# Altium schematic symbol library 74hc165.SchLib: 1 symbol
Pins are listed as number, name and electrical type; pins without a type are passive.

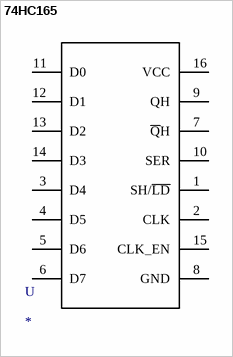
[diagram p0: symbol 74HC165]

## 74HC165
designator U
Shift Shift Register 1 Element 8 Bit 16-SO; MF: Nexperia USA; MP: 74HC165; SnapEDA_Link: https://www.snapeda.com/parts/74HC165/Nexperia%20USA%20Inc./view-part/560686/?ref=snap; Availability: Unavailable; Price: None; Package: VFQFN-16 STMicroelectronics; Value: *
footprint SO-16
pins: 1 SH/~{LD}, 2 CLK, 3 D4, 4 D5, 5 D6, 6 D7, 7 ~{Q}H, 8 GND, 9 QH, 10 SER, 11 D0, 12 D1, 13 D2, 14 D3, 15 CLK_EN, 16 VCC